# EAGLE library part ESP32-S3-WROOM-1 (library RobotMower_Eagle_Library)
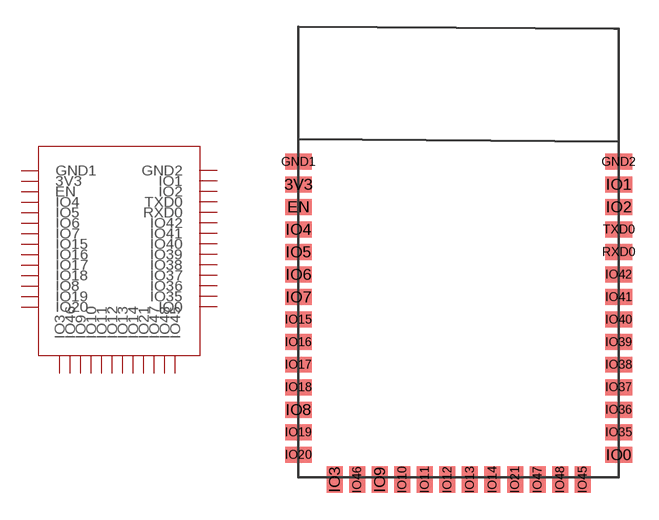
[diagram p1: symbol with the pads of ESP32-S3-WROOM-1; footprint ESP32-S3-WROOM-1]

Designator prefix -

## ESP32-S3-WROOM-1  [ESP32-S3-WROOM-1]
3V3  3V3
EN  EN
GND1  GND1
GND2  GND2
IO0  IO0
IO1  IO1
IO2  IO2
IO3  IO3
IO4  IO4
IO5  IO5
IO6  IO6
IO7  IO7
IO8  IO8
IO9  IO9
IO10  IO10
IO11  IO11
IO12  IO12
IO13  IO13
IO14  IO14
IO15  IO15
IO16  IO16
IO17  IO17
IO18  IO18
IO19  IO19
IO20  IO20
IO21  IO21
IO35  IO35
IO36  IO36
IO37  IO37
IO38  IO38
IO39  IO39
IO40  IO40
IO41  IO41
IO42  IO42
IO45  IO45
IO46  IO46
IO47  IO47
IO48  IO48
RXD0  RXD0
TXD0  TXD0

## Footprint ESP32-S3-WROOM-1 (pad centres in mm)
smd 1.5 x 0.9: 3V3 0,-8.89; EN 0,-10.16; GND1 0,-7.62; GND2 18.034,-7.62; IO0 18.034,-24.13; IO1 18.034,-8.89; IO2 18.034,-10.16; IO4 0,-11.43; IO5 0,-12.7; IO6 0,-13.97; IO7 0,-15.24; IO8 0,-21.59; IO15 0,-16.51; IO16 0,-17.78; IO17 0,-19.05; IO18 0,-20.32; IO19 0,-22.86; IO20 0,-24.13; IO35 18.034,-22.86; IO36 18.034,-21.59; IO37 18.034,-20.32; IO38 18.034,-19.05; IO39 18.034,-17.78; IO40 18.034,-16.51; IO41 18.034,-15.24; IO42 18.034,-13.97; RXD0 18.034,-12.7; TXD0 18.034,-11.43
smd 0.9 x 1.5: IO3 2.032,-25.527; IO9 4.572,-25.527; IO10 5.842,-25.527; IO11 7.112,-25.527; IO12 8.382,-25.527; IO13 9.652,-25.527; IO14 10.922,-25.527; IO21 12.192,-25.527; IO45 16.002,-25.527; IO46 3.302,-25.527; IO47 13.462,-25.527; IO48 14.732,-25.527